# Altium footprint library footprint.PcbLib: 31 footprints (part 1 of 2)
Each footprint in its own frame and in the unit in brackets; x right, y up, seen from the top. Pads: shape width x height; smd on the part's side, far side on the other; paste and mask are expansions set on the pad; w line width, h text height; cw(c..) or ccw(c..) is an arc to the next point about the centre after c.
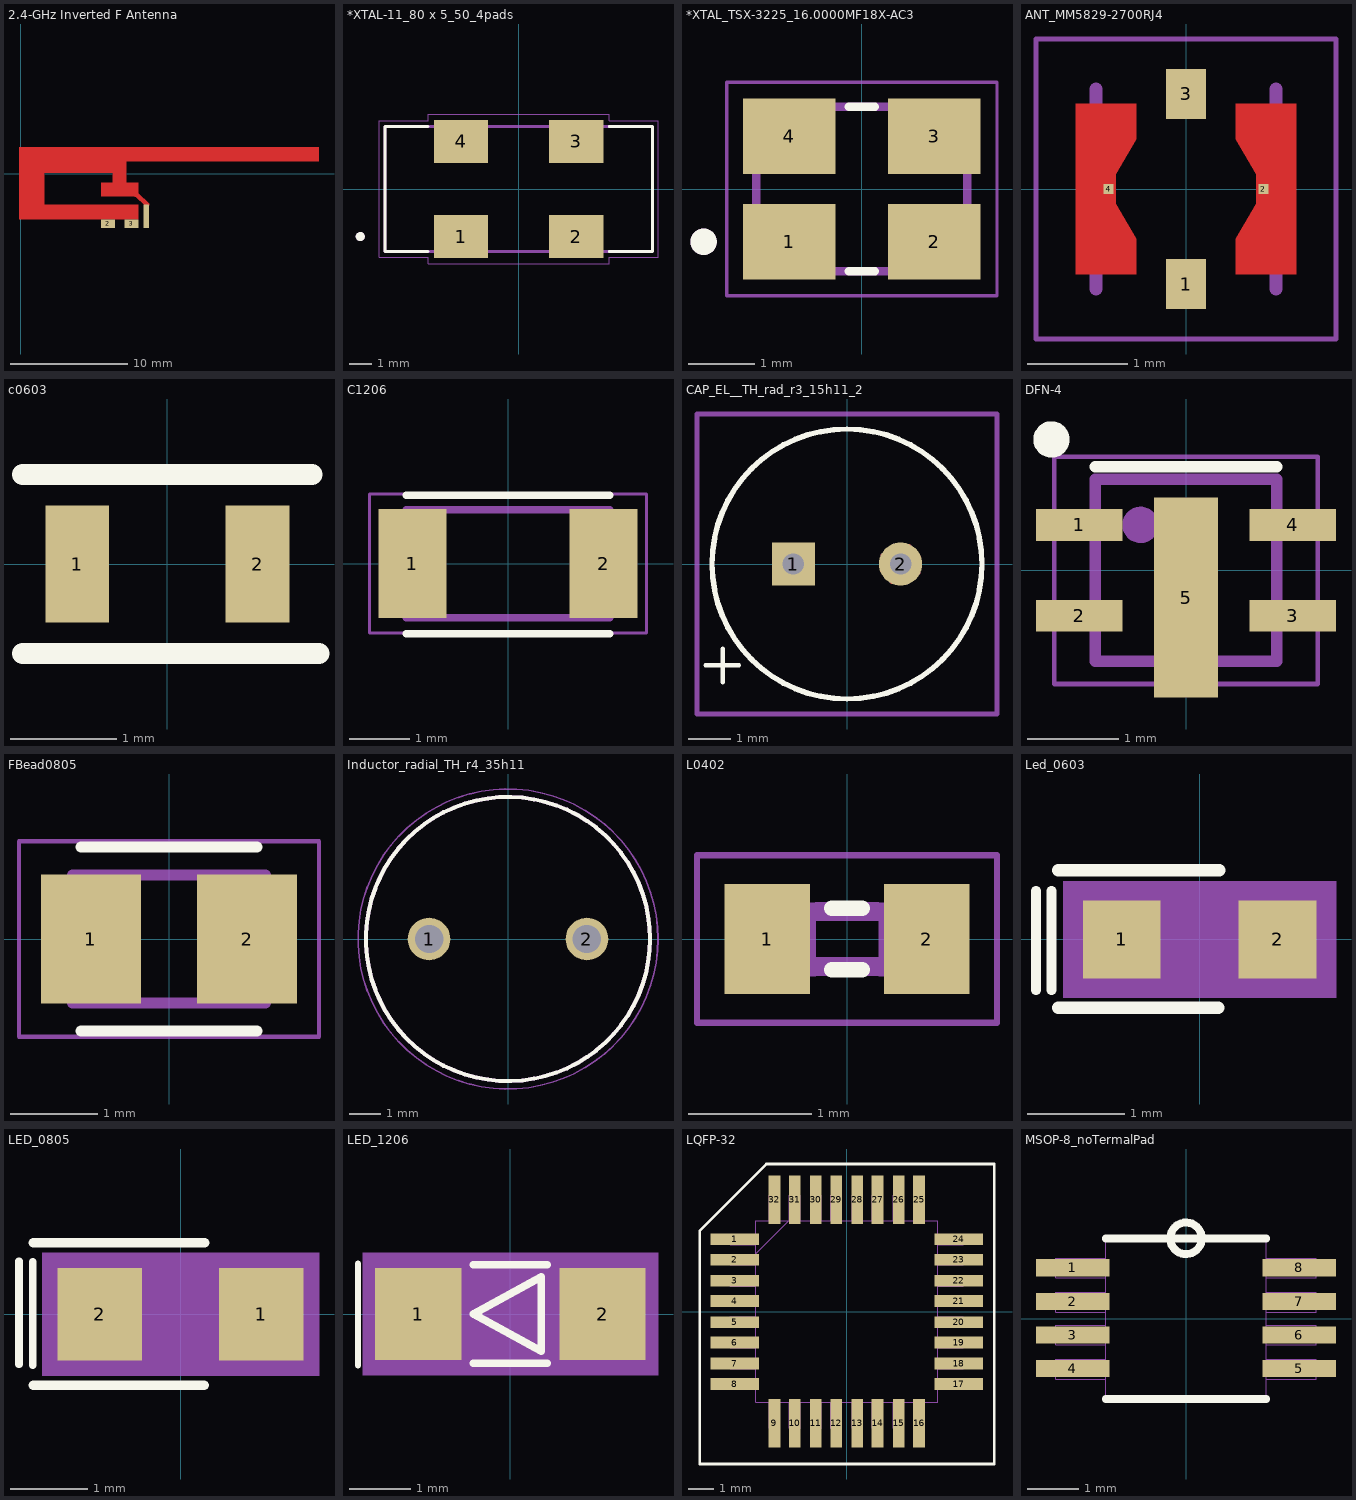
[diagram p0: the footprints below, top view; thin cyan lines are the x and y axes]

## 2.4-GHz Inverted F Antenna [mm]
pads (3):
  rect 0.46x2.02 smd paste+0 mask+0.01: 1(10.72,-3.64)
  rect 1.2x0.74 smd paste+0 mask+0.01: 2(7.44,-4.29) 3(9.44,-4.29)
Top Layer:
  rectangle: -0.14,0.04 7.84,2.25
  rectangle: 7.84,1.04 25.44,2.25
  rectangle: 7.84,-0.76 9.04,1.04
  rectangle: 6.84,-1.97 7.86,-0.76
  rectangle: 7.84,-1.97 9.04,-0.76
  rectangle: -0.14,-2.63 2.04,0.04
  rectangle: -0.14,-3.93 10.04,-2.63
  rectangle: 9.01,-1.97 10.04,-0.76
  region: 10.33,-1.86
  region: 10.265,-2.195
  region: 10.11,-2.19
  region: 10.93,-2.44
  region: 10.93,-2.44
  region: 10.72,-2.63
  region: 10.95,-2.71 10.95,-2.58 10.04,-1.67 9.89,-1.67 9.71,-1.85 9.71,-1.97 9.83,-1.97 10.57,-2.71

## *XTAL-11_80 x 5_50_4pads [mm] "CRYSTAL  SMD 4 pads(11,80 x 5,50mm) easy solderable"
pads (4):
  rect 2.4x1.9 smd: 1(-2.54,-2.1) 2(2.54,-2.1) 3(2.54,2.1) 4(-2.54,2.1)
Top Overlay:
  circle w0.2: c-6.985,-2.099 r0.1
  lines w0.127: -4,-2.75 -5.9,-2.75 -5.9,2.75 -4,2.75 ; 4,-2.75 5.9,-2.75 5.9,2.75 4,2.75
Mechanical 13:
  circle w0.2: c-6.985,-2.099 r0.1
  circle w0.2: c-6.985,-2.099 r0.1
  lines w0.127: -5.9,-2.75 5.9,-2.75 ; -5.9,-2.75 -5.9,2.75 ; -5.9,-2.75 5.9,-2.75 ; -5.9,-2.75 -5.9,2.75 ; -5.9,2.75 5.9,2.75 ; -5.9,2.75 5.9,2.75 ; 5.9,-2.75 5.9,2.75 ; 5.9,-2.75 5.9,2.75
Mechanical 15:
  lines w0.05: -6.15,-3 -3.99,-3 -3.99,-3.3 3.99,-3.3 3.99,-3 6.15,-3 6.15,3 3.99,3 3.99,3.3 -3.99,3.3 -3.99,3 -6.15,3 -6.15,-3

## *XTAL_TSX-3225_16.0000MF18X-AC3 [mm]
pads (4):
  rect 1.4x1.15 smd: 1(-1.1,-0.8) 2(1.1,-0.8) 3(1.1,0.8) 4(-1.1,0.8)
Top Overlay:
  circle w0.2: c-2.4,-0.8 r0.1
  lines w0.127: -0.2,-1.25 0.2,-1.25 ; -0.2,1.25 0.2,1.25
Mechanical 13:
  circle w0.2: c-2.4,-0.8 r0.1
  circle w0.2: c-2.4,-0.8 r0.1
  lines w0.127: -1.6,-1.25 -1.6,1.25 ; -1.6,-1.25 1.6,-1.25 ; -1.6,-1.25 -1.6,1.25 ; -1.6,-1.25 1.6,-1.25 ; -1.6,1.25 1.6,1.25 ; -1.6,1.25 1.6,1.25 ; 1.6,-1.25 1.6,1.25 ; 1.6,-1.25 1.6,1.25
Mechanical 15:
  lines w0.05: -2.05,-1.62 -2.05,1.62 2.05,1.62 2.05,-1.62 -2.05,-1.62
3D body "Crystal-XTAL_OSC_tsx-3225_4pads.STEP": height 0.6, standoff 0, extent -1.6,-1.25 1.6,1.25

## ANT_MM5829-2700RJ4 [mm]
pads (4):
  rect 0.4x0.5 smd: 1(0,-0.95) 3(0,0.95)
  rect 0.1x0.1 smd: 2(0.775,0) 4(-0.775,0)
Top Layer:
  region: -0.5,0.5 -0.5,0.85 -1.1,0.85 -1.1,-0.85 -0.5,-0.85 -0.5,-0.5 -0.7,-0.15 -0.7,0.15
  region: 0.5,-0.5 0.5,-0.85 1.1,-0.85 1.1,0.85 0.5,0.85 0.5,0.5 0.7,0.15 0.7,-0.15
Top Paste:
  region: -0.15,-0.75 0.15,-0.75 0.15,-1.102 -0.15,-1.102
  region: -0.15,1.1 0.15,1.1 0.15,0.75 -0.15,0.75
  region: 0.701,0.7 1.1,0.7 1.1,-0.701 0.701,-0.701
  region: -1.101,0.7 -0.7,0.7 -0.7,-0.701 -1.101,-0.701
Top Solder:
  region: -0.25,-0.65 0.25,-0.65 0.25,-1.201 -0.25,-1.201
  region: -0.25,1.2 0.25,1.2 0.25,0.651 -0.25,0.651
  region: 0.45,0.85 1.1,0.85 1.1,-0.851 0.45,-0.851
  region: -1.102,0.85 -0.45,0.85 -0.45,-0.852 -1.102,-0.852
Mechanical 13:
  lines w0.127: -0.9,-1 -0.9,1 -0.9,-1 ; 0.9,-1 0.9,1 0.9,-1
Mechanical 15:
  lines w0.05: -1.5,-1.5 1.5,-1.5 1.5,1.5 -1.5,1.5 -1.5,-1.5
3D body "ANTconn_MURATA_MM5829-2700RJ4.STEP": height 0.5, standoff 0, extent -0.9,-1 0.9,1

## c0603 [mm] "Capacitor 0603"
height 0.61
pads (2):
  rect 0.6x1.1 smd: 1(-0.85,0) 2(0.85,0)
Top Overlay:
  lines w0.2: -1.365,-0.845 1.43,-0.845 ; -1.365,0.845 1.365,0.845
3D body "C0603.step": height 0.8, standoff 0, extent -0.8,-0.4 0.8,0.4
3D body: height 0.4, standoff -0.4, extent 0.91,-0.26 0.91,-0.26

## C1206 [mm]
height 1
pads (2):
  rect 1.14x1.82 smd: 1(-1.595,0) 2(1.595,0)
Top Overlay:
  lines w0.127: -1.7,-1.17 1.7,-1.17 ; -1.7,1.14 1.7,1.14
Mechanical 13:
  lines w0.127: -1.7,-0.9 -1.7,0.9 ; -1.7,-0.9 1.7,-0.9 ; -1.7,-0.9 -1.7,0.9 ; -1.7,-0.9 1.7,-0.9 ; -1.7,0.9 1.7,0.9 ; -1.7,0.9 1.7,0.9 ; 1.7,-0.9 1.7,0.9 ; 1.7,-0.9 1.7,0.9
Mechanical 15:
  lines w0.05: -2.31,-1.16 -2.31,1.16 2.31,1.16 2.31,-1.16 -2.31,-1.16
3D body "C1206.step": height 1.6, standoff 0, extent -1.66,-0.79 1.54,0.81

## CAP_EL__TH_rad_r3_15h11_2 [mm] "Condensatori elettrolitici in alluminio, Foro passante, r 3.15mm h 11.2mm"
height 11.2
pads (2):
  rect 1.008x1.008 hole 0.5: 1(-1.25,0)
  round 1.008 hole 0.5: 2(1.25,0)
Top Layer:
  region: 1.724,0.172 1.463,0.457 1.078,0.474 0.793,0.213 0.776,-0.172 1.037,-0.457 1.422,-0.474 1.707,-0.213
Bottom Layer:
  region: 1.724,0.172 1.463,0.457 1.078,0.474 0.793,0.213 0.776,-0.172 1.037,-0.457 1.422,-0.474 1.707,-0.213
Top Overlay:
  circle w0.127: c0,0 r3.15
  lines w0.1: -3.3,-2.36 -2.52,-2.36 ; -2.9,-2.76 -2.9,-1.98
Mechanical 15:
  lines w0.127: -3.5,-3.5 -3.5,3.5 3.5,3.5 3.5,-3.5 -3.5,-3.5
Multi-Layer:
  region: 1.724,0.172 1.463,0.457 1.078,0.474 0.793,0.213 0.776,-0.172 1.037,-0.457 1.422,-0.474 1.707,-0.213
3D body "C_EL_TH_RAD_D6.3_H11.2.STEP": height 11.21, standoff -2.7, extent -3.16,-3.16 3.15,3.14
3D body "C_EL_TH_RAD_D6.3_H11.2.STEP": height 11.21, standoff -2.7, extent -3.14,-3.22 3.17,3.08

## DFN-4 [mm] "DFN-4 easy solder + heatpad"
pads (5):
  rect 0.95x0.35 smd: 1(-1.175,0.5) 2(-1.175,-0.5) 3(1.175,-0.5) 4(1.175,0.5)
  rect 0.7x2.2 smd: 5(0,-0.3)
Top Overlay:
  circle w0.2: c-1.48,1.44 r0.1
  lines w0.127: -1,1.14 1,1.14
Top Paste:
  region: -0.25,0.7 0.25,0.7 0.25,-0.701 -0.25,-0.701
  region: -1.301,0.675 -0.75,0.675 -0.75,0.325 -1.301,0.325
  region: -1.301,-0.325 -0.75,-0.325 -0.75,-0.676 -1.301,-0.676
  region: 1.3,-0.676 0.751,-0.676 0.751,-0.325 1.3,-0.325
  region: 1.3,0.325 0.751,0.325 0.751,0.675 1.3,0.675
Mechanical 13:
  circle w0.2: c-0.5,0.5 r0.1
  circle w0.2: c-0.5,0.5 r0.1
  lines w0.127: -1,-1 1,-1 ; -1,-1 -1,1 ; -1,-1 1,-1 ; -1,-1 -1,1 ; -1,1 1,1 ; -1,1 1,1 ; 1,-1 1,1 ; 1,-1 1,1
Mechanical 15:
  lines w0.05: -1.45,-1.25 1.45,-1.25 1.45,1.25 -1.45,1.25 -1.45,-1.25
3D body "DFN-4.STEP": height 0.75, standoff 0, extent -1,-1 1,1

## FBead0805 [mm] "Ind Chip Shielded Multi-Layer Ferrite 0805"
height 1.45
pads (2):
  rect 1.14x1.47 smd: 1(-0.89,0) 2(0.89,0)
Top Overlay:
  lines w0.127: -1,-1.05 1,-1.05 ; -1,1.05 1,1.05
Mechanical 13:
  lines w0.127: -1.1,-0.73 1.1,-0.73 ; -1.1,-0.73 -1.1,0.73 ; -1.1,-0.73 1.1,-0.73 ; -1.1,-0.73 -1.1,0.73 ; -1.1,0.73 1.1,0.73 ; -1.1,0.73 1.1,0.73 ; 1.1,-0.73 1.1,0.73 ; 1.1,-0.73 1.1,0.73
Mechanical 15:
  lines w0.05: -1.71,-1.114 1.71,-1.114 1.71,1.114 -1.71,1.114 -1.71,-1.114
3D body "FBead0805.STEP": height 0.85, standoff 0, extent -1,-0.625 1,0.625

## Inductor_radial_TH_r4_35h11 [mm] "Fixed inductor Through Hole Radial r:4.35mm h:11mm"
pads (2):
  round 1.35 hole 0.9: 1(-2.5,0) 2(2.5,0)
Top Overlay:
  circle w0.127: c0,0 r4.5
Mechanical 13:
  circle w0.127: c0,0 r4.5
  circle w0.127: c0,0 r4.5
Mechanical 15:
  circle w0.05: c0,0 r4.75
3D body "IND_RAD_TH_r4_35h11.STEP": height 10, standoff -5, extent -4.36,-4.3 4.34,4.4

## L0402 [mm] "Inductor RF Chip Multi-Layer 0402"
height 0.5
pads (2):
  rect 0.7x0.9 smd: 1(-0.65,0) 2(0.65,0)
Top Overlay:
  lines w0.127: -0.125,-0.25 0.125,-0.25 ; -0.125,0.25 0.125,0.25
Mechanical 13:
  region: 0.259,0.295 0.559,0.295 0.559,-0.305 0.259,-0.305
  region: -0.554,0.295 -0.254,0.295 -0.254,-0.305 -0.554,-0.305
  region: 0.259,0.295 0.559,0.295 0.559,-0.305 0.259,-0.305
  region: -0.554,0.295 -0.254,0.295 -0.254,-0.305 -0.554,-0.305
  lines w0.152: -0.245,-0.224 0.245,-0.224 -0.245,-0.224 ; -0.245,0.224 0.245,0.224 -0.245,0.224
Mechanical 15:
  lines w0.051: -1.223,-0.683 -1.223,0.683 1.223,0.683 1.223,-0.683 -1.223,-0.683
3D body "L0402.STEP": height 0.41, standoff -0.05, extent -0.5,-0.25 0.5,0.25
3D body "L0402.STEP": height 0.43, standoff -0.03, extent -0.5,-0.25 0.5,0.25

## Led_0603 [mm] "Diode Led 0603 SMD"
pads (2):
  rect 0.8x0.8 smd: 1(-0.8,0) 2(0.8,0)
Top Overlay:
  lines w0.1: -1.68,-0.52 -1.68,0.5 ; -1.52,-0.52 -1.52,0.5
  lines w0.127: -1.45,-0.7 0.19,-0.7 ; -1.45,0.71 0.2,0.71
Mechanical 13:
  lines w0.127: -0.8,-0.4 -0.8,0.4 ; -0.8,-0.4 0.8,-0.4 ; -0.8,-0.4 -0.8,0.4 ; -0.8,-0.4 0.8,-0.4 ; -0.8,0.4 0.8,0.4 ; -0.8,0.4 0.8,0.4 ; 0.8,-0.4 0.8,0.4 ; 0.8,-0.4 0.8,0.4
Mechanical 15:
  region: -1.4,0.6 1.4,0.6 1.4,-0.6 -1.4,-0.6
3D body "LED_0603.STEP": height 0.64, standoff 0, extent -0.8,-0.4 0.8,0.4

## LED_0805 [mm] "Diode Led 0803"
pads (2):
  rect 1.1x1.2 smd: 1(1.05,0) 2(-1.05,0)
Top Overlay:
  lines w0.1: -2.1,-0.65 -2.1,0.69 ; -1.92,-0.66 -1.92,0.68
  lines w0.127: -1.91,-0.92 0.308,-0.92 ; -1.91,0.93 0.312,0.93
Mechanical 13:
  lines w0.127: -1,-0.625 -1,0.625 ; -1,-0.625 1,-0.625 ; -1,-0.625 -1,0.625 ; -1,-0.625 1,-0.625 ; -1,0.625 1,0.625 ; -1,0.625 1,0.625 ; 1,-0.625 1,0.625 ; 1,-0.625 1,0.625
Mechanical 15:
  region: -1.8,0.8 1.8,0.8 1.8,-0.8 -1.8,-0.8
3D body "LED_0805.STEP": height 0.64, standoff 0, extent -1,-0.625 1,0.625

## LED_1206 [mm] "Diode led 1206"
pads (2):
  rect 1.4x1.5 smd: 1(-1.5,0) 2(1.5,0)
Top Overlay:
  lines w0.1: -2.48,-0.84 -2.48,0.82
  lines w0.127: -0.6,-0.8 0.6,-0.8 ; -0.6,0.8 0.6,0.8 ; -0.6,0 0.5,0.6 0.5,-0.6 -0.6,0
Mechanical 13:
  lines w0.127: -1.6,-0.8 1.6,-0.8 ; -1.6,-0.8 -1.6,0.8 ; -1.6,-0.8 1.6,-0.8 ; -1.6,-0.8 -1.6,0.8 ; -1.6,0.8 1,0.8 -1.6,0.8 ; 1.6,-0.8 1.6,0.8 ; 1.6,-0.8 1.6,0.8 ; 1.6,0.8 0.7,0.8 1.6,0.8
Mechanical 15:
  region: -2.4,1 2.4,1 2.4,-1 -2.4,-1
3D body "LED_1206.STEP": height 0.62, standoff 0, extent -1.62,-0.8 1.58,0.8

## LQFP-32 [mil] "LQFP-32, no central pad, easy solderable"
height 62.99
pads (32):
  rect 73.74x18 smd: 1(-169.88,110) 2(-169.88,79) 3(-169.88,47) 4(-169.88,16) 5(-169.88,-16) 6(-169.88,-47) 7(-169.88,-79) 8(-169.88,-110) 17(169.88,-110) 18(169.88,-79) 19(169.88,-47) 20(169.88,-16) 21(169.88,16) 22(169.88,47) 23(169.88,79) 24(169.88,110)
  rect 18x73.74 smd: 9(-110,-169.88) 10(-79,-169.88) 11(-47,-169.88) 12(-16,-169.88) 13(16,-169.88) 14(47,-169.88) 15(79,-169.88) 16(110,-169.88) 25(110,169.88) 26(79,169.88) 27(47,169.88) 28(16,169.88) 29(-16,169.88) 30(-47,169.88) 31(-79,169.88) 32(-110,169.88)
Top Overlay:
  lines w3.94: -223.62,-231.5 -203.15,-231.5 224.41,-231.5 224.41,-219.69 224.41,-203.94 224.41,224.41 213.39,224.41 -122.05,224.41 -223.62,122.83 -223.62,-231.5
Mechanical 13:
  drawing of 266 lines, arcs and shapes, not listed
3D body "LQFP32.STEP": height 64.28, standoff -3.69, extent -177.16,-177.16 177.16,177.16

## MSOP-8_noTermalPad [mil]
height 43.31
pads (8):
  rect 56x13.07 smd: 1(-86,38.58) 2(-86,13) 3(-86,-12.5) 4(-86,-38) 5(86,-38) 6(86,-12.5) 7(86,13) 8(86,38.58)
Top Overlay:
  circle w6: c0,61 r12
  lines w6: -61,-61 61,-61 ; -61,61 -12,61 12,61 61,61
Mechanical 13:
  lines w0: -99,-46 -61,-46 ; -99,-46 -99,-31 ; -99,-46 -61,-46 ; -99,-46 -99,-31 ; -99,-31 -61,-31 ; -99,-31 -61,-31 ; -99,-20 -61,-20 ; -99,-20 -99,-5 ; -99,-20 -61,-20 ; -99,-20 -99,-5 ; -99,-5 -61,-5 ; -99,-5 -61,-5 ; -99,5 -61,5 ; -99,5 -99,20 ; -99,5 -61,5 ; -99,5 -99,20 ; -99,20 -61,20 ; -99,20 -61,20 ; -99,31 -61,31 ; -99,31 -99,46 ; -99,31 -61,31 ; -99,31 -99,46 ; -99,46 -61,46 ; -99,46 -61,46 ; -61,-61 -61,61 ; -61,-61 61,-61 ; -61,-61 -61,61 ; -61,-61 61,-61 ; -61,-46 -61,-31 ; -61,-46 -61,-31 ; -61,-20 -61,-5 ; -61,-20 -61,-5 ; -61,5 -61,20 ; -61,5 -61,20 ; -61,31 -61,46 ; -61,31 -61,46 ; -61,61 -12,61 ; -61,61 -12,61 ; -12,61 ccw(c0,61) 12,61 ; -12,61 ccw(c0,61) 12,61 ; -12,61 12,61 ; -12,61 12,61 ; 12,61 61,61 ; 12,61 61,61 ; 61,-61 61,61 ; 61,-61 61,61 ; 61,-46 99,-46 ; 61,-46 61,-31 ; 61,-46 99,-46 ; 61,-46 61,-31 ; 61,-31 99,-31 ; 61,-31 99,-31 ; 61,-20 99,-20 ; 61,-20 61,-5 ; 61,-20 99,-20 ; 61,-20 61,-5 ; 61,-5 99,-5 ; 61,-5 99,-5 ; 61,5 99,5 ; 61,5 61,20 ; 61,5 99,5 ; 61,5 61,20 ; 61,20 99,20 ; 61,20 99,20 ; 61,31 99,31 ; 61,31 61,46 ; 61,31 99,31 ; 61,31 61,46 ; 61,46 99,46 ; 61,46 99,46 ; 99,-46 99,-31 ; 99,-46 99,-31 ; 99,-20 99,-5 ; 99,-20 99,-5 ; 99,5 99,20 ; 99,5 99,20 ; 99,31 99,46 ; 99,31 99,46
3D body "MSOP8_noExposedPad.STEP": height 43.31, standoff 0, extent -97.64,-61.42 96.76,60.63